# Altium schematic symbol library Capacitors-Library.SchLib: 7 symbols
Pins are listed as number, name and electrical type; pins without a type are passive.

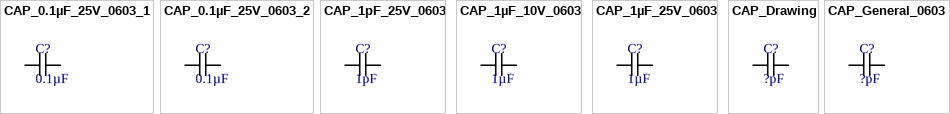
[diagram p0: symbols CAP_0.1µF_25V_0603_1 to CAP_General_0603]

## CAP_0.1µF_25V_0603_1
designator C?, comment 0.1µF
Capacitor SMD 0603 0.1µF
pins: 1, 2

## CAP_0.1µF_25V_0603_2
designator C?, comment 0.1µF
Capacitor SMD 0603 0.1µF
pins: 1, 2

## CAP_1pF_25V_0603
designator C?, comment 1pF
Capacitor SMD 0603 1pF
pins: 1, 2

## CAP_1µF_10V_0603
designator C?, comment 1µF
Capacitor SMD 0603 1µF
pins: 1, 2

## CAP_1µF_25V_0603
designator C?, comment 1µF
Capacitor SMD 0603 1µF
pins: 1, 2

## CAP_Drawing
designator C?, comment ?pF
Capacitor SMD 0603 ?pF
pins: 1, 2

## CAP_General_0603
designator C?, comment ?pF
Capacitor SMD 0603 ?pF
pins: 1, 2